# Altium schematic symbol library SHARP-LHF00L30.schlib: 1 symbol
Pins are listed as number, name and electrical type; pins without a type are passive.

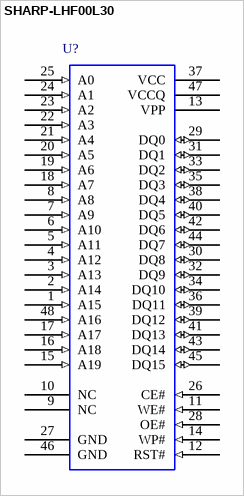
[diagram p0: symbol SHARP-LHF00L30]

## SHARP-LHF00L30
designator U?  (value not drawn)
Flash Memory 16Mbit (1Mbitx16); CircuitryPartsPN: SHARP-LHF00L30; ManufacturerPN: LHF00L30; Manufacturer: Sharp Microelectronics; CategoryI: Integrated Circuits (ICs); SchematicRev: A; DesignedBy: Circuitry Parts; MfgURL: http://www.sharpsma.com/; PackageName: TSOP48; FootprintName: *; CategoryII: Memory; Value: *; DesignedOn: 7/19/2005 11:03:50 AM
pins: 1 A15 (in), 2 A14 (in), 3 A13 (in), 4 A12 (in), 5 A11 (in), 6 A10 (in), 7 A9 (in), 8 A8 (in), 9 NC, 10 NC, 11 WE# (in), 12 RST# (in), 13 VPP (power), 14 WP# (in), 15 A19 (in), 16 A18 (in), 17 A17 (in), 18 A7 (in), 19 A6 (in), 20 A5 (in), 21 A4 (in), 22 A3 (in), 23 A2 (in), 24 A1 (in), 25 A0 (in), 26 CE# (in), 27 GND (power), 28 OE# (in), 29 DQ0 (io), 30 DQ8 (io), 31 DQ1 (io), 32 DQ9 (io), 33 DQ2 (io), 34 DQ10 (io), 35 DQ3 (io), 36 DQ11 (io), 37 VCC (power), 38 DQ4 (io), 39 DQ12 (io), 40 DQ5 (io), 41 DQ13 (io), 42 DQ6 (io), 43 DQ14 (io), 44 DQ7 (io), 45 DQ15 (io), 46 GND (power), 47 VCCQ (power), 48 A16 (in)